# Altium schematic symbol library EVQPUC02K.SchLib: 1 symbol
Pins are listed as number, name and electrical type; pins without a type are passive.

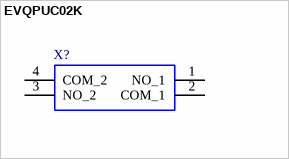
[diagram p0: symbol EVQPUC02K]

## EVQPUC02K
designator X?
PANASONIC ELECTRONIC COMPONENTS - EVQPUC02K - TACTILE SW, SPST-NO, 0.05A, 12V, SMD; Geometry.Height: 1.95mm; Manufacturer_Name: Panasonic; Manufacturer_Part_Number: EVQPUC02K; Mouser Part Number: *; Mouser Price/Stock: *; Arrow Part Number: *; Arrow Price/Stock: *; Mouser Testing Part Number: *; Mouser Testing Price/Stock: *; Datasheet Link: https://industrial.panasonic.com/ac/cdn/e/control/switch/light-touch/catalog/sw_lt_eng_smalls_side.pdf
footprint EVQPUC02K
pins: 1 NO_1, 2 COM_1, 3 NO_2, 4 COM_2